# EAGLE library part RS485_RIEGEL_LIEGEND (library roboternetz_definitionen)
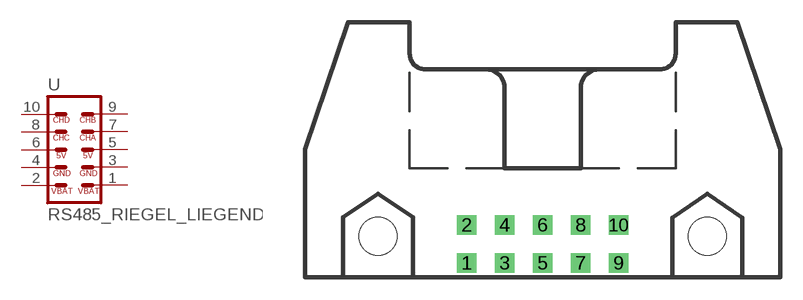
[diagram p11: symbol with the pads of 3M_10L; footprint 3M_10L]

Designator prefix -

## RS485_RIEGEL_LIEGEND  [3M_10L]
1  1_VBAT  pas
2  2_VBAT  pas
3  3_GND  pas
4  4_GND  pas
5  5_5V  pas
6  6_5V  pas
7  7_CHA  pas
8  8_CHC  pas
9  9_CHB  pas
10  10_CHD  pas

## Footprint 3M_10L (pad centres in mm)
3M
drill 0.813 square: 1 -5.08,-5.08; 2 -5.08,-2.54; 3 -2.54,-5.08; 4 -2.54,-2.54; 5 0,-5.08; 6 0,-2.54; 7 2.54,-5.08; 8 2.54,-2.54; 9 5.08,-5.08; 10 5.08,-2.54
hole 2.54 at -10.998,-3.277
hole 2.54 at 10.998,-3.277